# EAGLE library part THR_10-2411WI (library THR_10-2411WI)
10 Watt DC/DC converter, industrial, 4:1 input, reinforced isolation (3000 VAC), encapsulated, 2"x1" Check availability <https://pricing.snapeda.com/parts/THR%2010-2411WI/Traco%20Power/view-part?ref=eda>
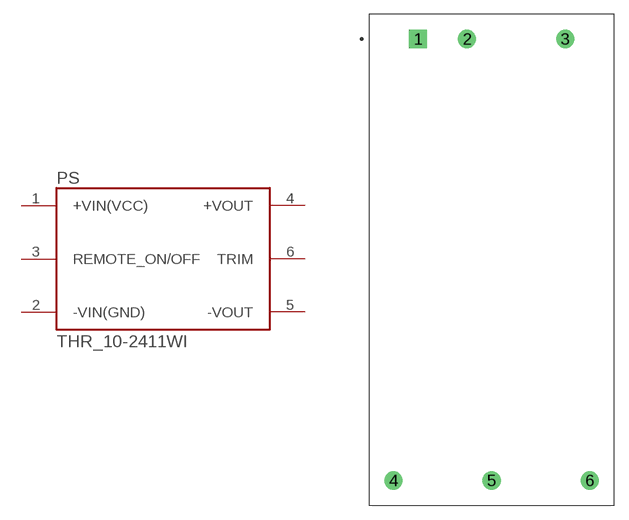
[diagram p0: symbol with the pads of CONV_THR_10-2411WI; footprint CONV_THR_10-2411WI]

Designator prefix PS

## THR_10-2411WI (Availability: In Stock; Description: 10 Watt DC/DC converter, industrial, 4:1 input, reinforced isolation (3000 VAC), encapsulated, 2x1; MF: Traco Power; MP: THR 10-2411WI; Package: DIP-6 Traco Power; Price: None; Purchase-URL: https://pricing.snapeda.com/search/part/THR 10-2411WI/?ref=eda)  [CONV_THR_10-2411WI]
1  +VIN(VCC)  in
2  -VIN(GND)  in
3  REMOTE_ON/OFF  in
4  +VOUT  out
5  -VOUT  out
6  TRIM  pas

## Footprint CONV_THR_10-2411WI (pad centres in mm)
drill 1.25 square: 1 -7.62,22.86
drill 1.25: 2 -2.54,22.86; 3 7.62,22.86; 4 -10.16,-22.86; 5 0,-22.86; 6 10.16,-22.86